# Altium schematic symbol library 2019-07-02_15-04-48.SchLib: 2 symbols
Pins are listed as number, name and electrical type; pins without a type are passive.

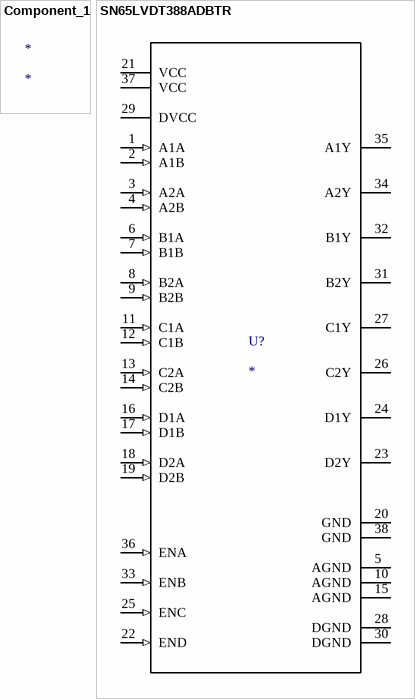
[diagram p0: symbols Component_1 to SN65LVDT388ADBTR]

## Component_1
designator *

## SN65LVDT388ADBTR
designator U?
No Description Available; Manufacturer: Texas Instruments; PartNumber: SN65LVDT388ADBTR; RefDes: RefDes; Type: DEV; Value: Value; Copyright: Copyright (C) 2018 Accelerated Designs. All rights reserved
footprint DBT0038A_N
pins: 1 A1A (in), 2 A1B (in), 3 A2A (in), 4 A2B (in), 5 AGND (power), 6 B1A (in), 7 B1B (in), 8 B2A (in), 9 B2B (in), 10 AGND (power), 11 C1A (in), 12 C1B (in), 13 C2A (in), 14 C2B (in), 15 AGND (power), 16 D1A (in), 17 D1B (in), 18 D2A (in), 19 D2B (in), 20 GND (power), 21 VCC (power), 22 END (in), 23 D2Y (hiz), 24 D1Y (hiz), 25 ENC (in), 26 C2Y (hiz), 27 C1Y (hiz), 28 DGND (power), 29 DVCC (power), 30 DGND (power), 31 B2Y (hiz), 32 B1Y (hiz), 33 ENB (in), 34 A2Y (hiz), 35 A1Y (hiz), 36 ENA (in), 37 VCC (power), 38 GND (power)